# Altium footprint library SparkFun-Connectors.PCBLIB: 310 footprints (part 12 of 20)
Each footprint in its own frame and in the unit in brackets; x right, y up, seen from the top. Pads: shape width x height; smd on the part's side, far side on the other; paste and mask are expansions set on the pad; w line width, h text height; cw(c..) or ccw(c..) is an arc to the next point about the centre after c.
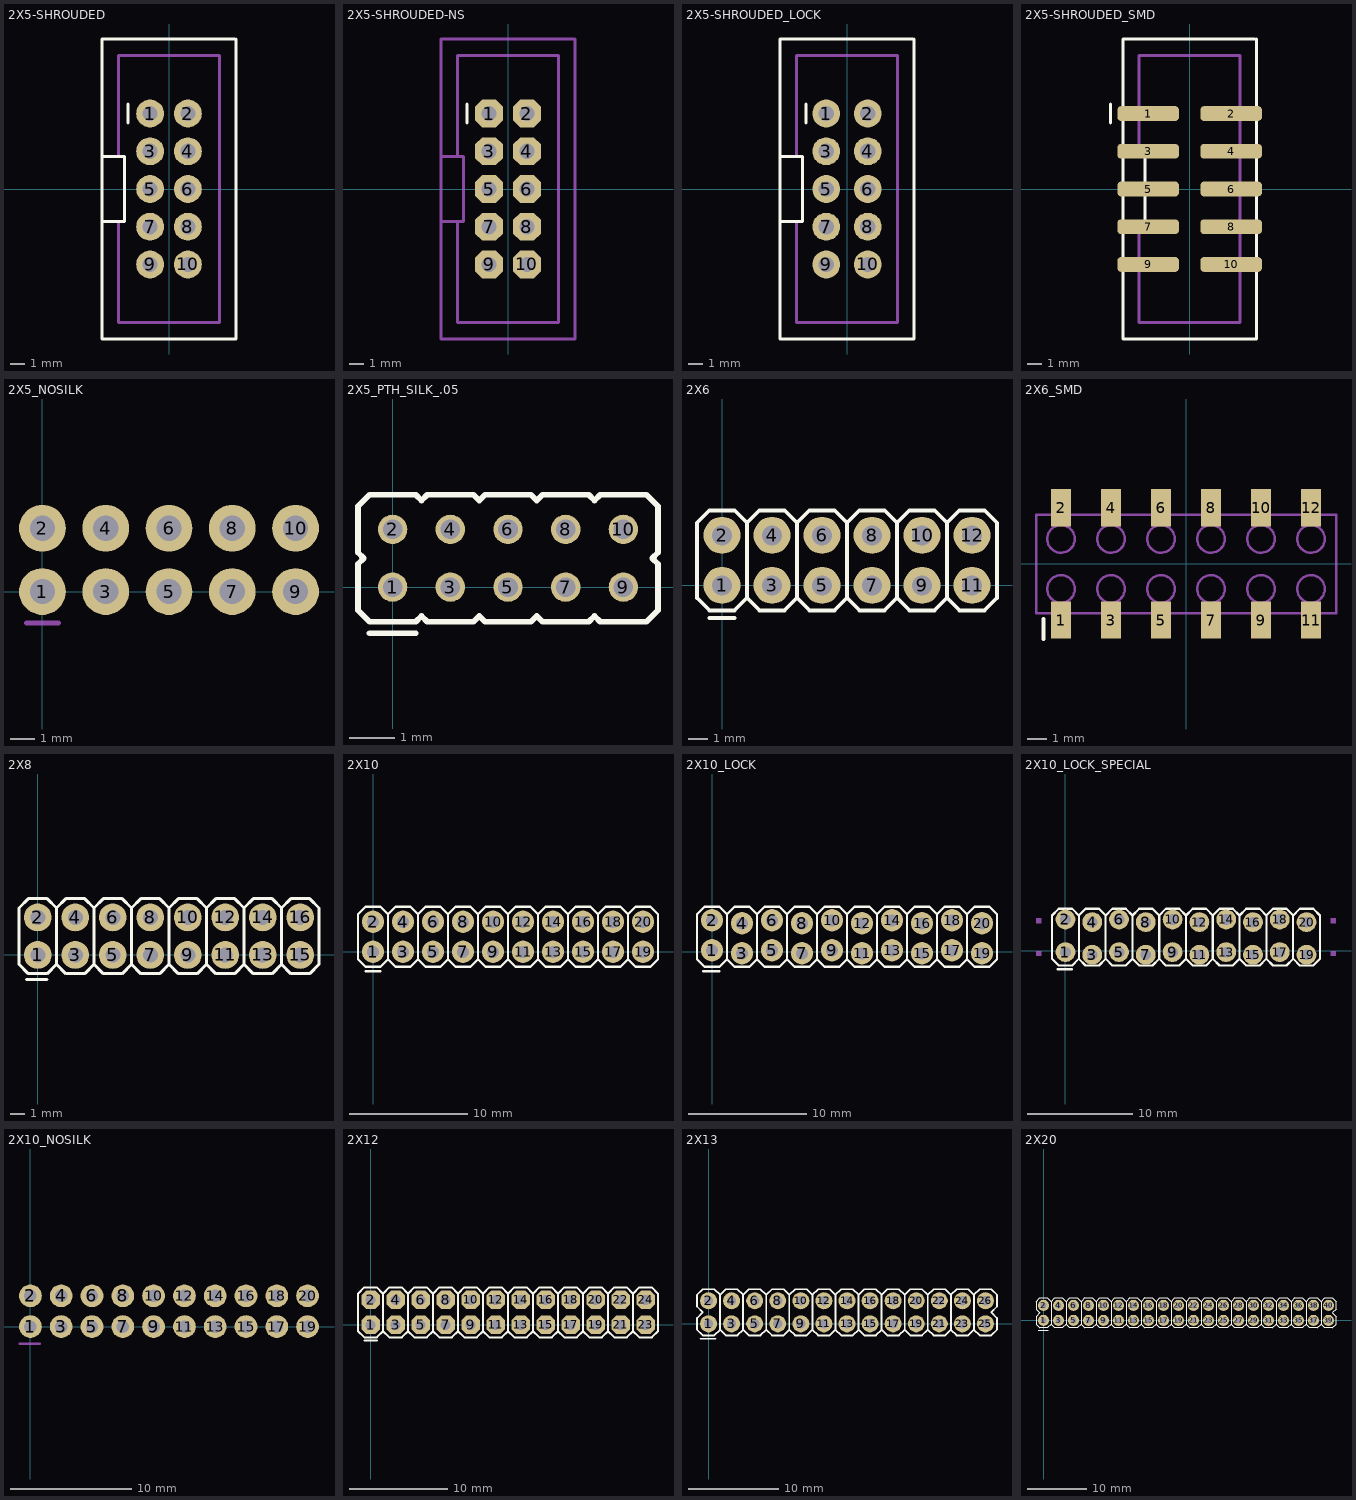
[diagram p11: the footprints below, top view; thin cyan lines are the x and y axes]

## 2X5-SHROUDED [mil]
pads (10):
  round 74 hole 40: 1(-50,200) 2(50,200) 3(-50,100) 4(50,100) 5(-50,0) 6(50,0) 7(-50,-100) 8(50,-100) 9(-50,-200) 10(50,-200)
Top Overlay:
  lines w8: -109.25,175 -109.25,225 ; 173.23,397.64 -177.17,397.64 -177.17,86.61 ; 177.17,397.64 177.17,-397.64 -177.17,-397.64 -177.17,-86.61 ; -177.17,-86.61 -177.17,86.61 ; -177.17,-86.61 -118.11,-86.61 -118.11,86.61 -177.17,86.61
Bottom Overlay:
  lines w8: -110.75,175 -110.75,225
Mechanical 16:
  rectangle: -60,190 -40,210
  rectangle: 40,190 60,210
  rectangle: 40,90 60,110
  rectangle: -60,90 -40,110
  rectangle: 40,-10 60,10
  rectangle: -60,-10 -40,10
  rectangle: 40,-110 60,-90
  rectangle: -60,-110 -40,-90
  rectangle: 40,-210 60,-190
  rectangle: -60,-210 -40,-190
  rectangle: -60,-110 -40,-90
  rectangle: 40,-110 60,-90
  lines w8: -133.86,-86.61 -133.86,-354.33 133.86,-354.33 133.86,354.33 -133.86,354.33 -133.86,86.61

## 2X5-SHROUDED-NS [mil]
pads (10):
  oct 74x74 hole 40: 1(-50,200) 2(50,200) 3(-50,100) 4(50,100) 5(-50,0) 6(50,0) 7(-50,-100) 8(50,-100) 9(-50,-200) 10(50,-200)
Top Overlay:
  lines w8: -109.25,175 -109.25,225
Bottom Overlay:
  lines w8: -110.75,175 -110.75,225
Mechanical 16:
  rectangle: -60,190 -40,210
  rectangle: 40,190 60,210
  rectangle: 40,90 60,110
  rectangle: -60,90 -40,110
  rectangle: 40,-10 60,10
  rectangle: -60,-10 -40,10
  rectangle: 40,-110 60,-90
  rectangle: -60,-110 -40,-90
  rectangle: 40,-210 60,-190
  rectangle: -60,-210 -40,-190
  rectangle: -60,-110 -40,-90
  rectangle: 40,-110 60,-90
  lines w8: -133.86,-86.61 -133.86,-354.33 133.86,-354.33 133.86,354.33 -133.86,354.33 -133.86,86.61 ; 173.23,397.64 -177.17,397.64 -177.17,86.61 ; 177.17,397.64 177.17,-397.64 -177.17,-397.64 -177.17,-86.61 ; -177.17,-86.61 -177.17,86.61 ; -177.17,-86.61 -118.11,-86.61 -118.11,86.61 -177.17,86.61

## 2X5-SHROUDED_LOCK [mil]
pads (10):
  round 74 hole 40: 1(-55,200) 2(55,200) 3(-55,100) 4(55,100) 5(-55,0) 6(55,0) 7(-55,-100) 8(55,-100) 9(-55,-200) 10(55,-200)
Top Overlay:
  lines w8: -109.25,175 -109.25,225 ; 173.23,397.64 -177.17,397.64 -177.17,86.61 ; 177.17,397.64 177.17,-397.64 -177.17,-397.64 -177.17,-86.61 ; -177.17,-86.61 -177.17,86.61 ; -177.17,-86.61 -118.11,-86.61 -118.11,86.61 -177.17,86.61
Bottom Overlay:
  lines w8: -110.75,175 -110.75,225
Mechanical 16:
  region: -60,210 -60,190 -40,190 -40,210
  region: 40,210 40,190 60,190 60,210
  region: 40,110 40,90 60,90 60,110
  region: -60,110 -60,90 -40,90 -40,110
  region: 40,10 40,-10 60,-10 60,10
  region: -60,10 -60,-10 -40,-10 -40,10
  region: 40,-90 40,-110 60,-110 60,-90
  region: -60,-90 -60,-110 -40,-110 -40,-90
  region: 40,-190 40,-210 60,-210 60,-190
  region: -60,-190 -60,-210 -40,-210 -40,-190
  region: -60,-90 -60,-110 -40,-110 -40,-90
  region: 40,-90 40,-110 60,-110 60,-90
  lines w8: -133.86,-86.61 -133.86,-354.33 133.86,-354.33 133.86,354.33 -133.86,354.33 -133.86,86.61

## 2X5-SHROUDED_SMD [mil]
pads (10):
  rrect50% 163.39x39.37 smd: 1(-110,200) 2(110,200) 3(-110,100) 4(110,100) 5(-110,0) 6(110,0) 7(-110,-100) 8(110,-100) 9(-110,-200) 10(110,-200)
Top Overlay:
  lines w8: -209.25,175 -209.25,225 ; 173.23,397.64 -177.17,397.64 -177.17,86.61 ; 177.17,397.64 177.17,-397.64 -177.17,-397.64 -177.17,-86.61 ; -177.17,-86.61 -177.17,86.61 ; -177.17,-86.61 -118.11,-86.61 -118.11,86.61 -177.17,86.61
Bottom Overlay:
  lines w8: -210.75,175 -210.75,225
Mechanical 16:
  rectangle: -60,190 -40,210
  rectangle: 40,190 60,210
  rectangle: 40,90 60,110
  rectangle: -60,90 -40,110
  rectangle: 40,-10 60,10
  rectangle: -60,-10 -40,10
  rectangle: 40,-110 60,-90
  rectangle: -60,-110 -40,-90
  rectangle: 40,-210 60,-190
  rectangle: -60,-210 -40,-190
  rectangle: -60,-110 -40,-90
  rectangle: 40,-110 60,-90
  lines w8: -133.86,-86.61 -133.86,-354.33 133.86,-354.33 133.86,354.33 -133.86,354.33 -133.86,86.61

## 2X5_NOSILK [mil]
pads (10):
  round 74 hole 40: 1(0,0) 2(0,100) 3(100,0) 4(100,100) 5(200,0) 6(200,100) 7(300,0) 8(300,100) 9(400,0) 10(400,100)
Mechanical 16:
  region: 10,-10 10,10 -10,10 -10,-10
  region: 10,90 10,110 -10,110 -10,90
  region: 110,90 110,110 90,110 90,90
  region: 110,-10 110,10 90,10 90,-10
  region: 210,-10 210,10 190,10 190,-10
  region: 410,90 410,110 390,110 390,90
  region: 410,-10 410,10 390,10 390,-10
  region: 310,-10 310,10 290,10 290,-10
  region: 310,90 310,110 290,110 290,90
  region: 210,90 210,110 190,110 190,90
  lines w8: -25,-50 25,-50

## 2X5_PTH_SILK_.05 [mil]
pads (10):
  round 25.5 hole 17: 1(0,0) 2(0,50) 3(50,0) 4(50,50) 5(100,0) 6(100,50) 7(150,0) 8(150,50) 9(200,0) 10(200,50)
Top Overlay:
  lines w5: -20,-40 20,-40 ; -30,-20 -20,-30 20,-30 25,-25 30,-30 70,-30 75,-25 80,-30 120,-30 125,-25 130,-30 170,-30 175,-25 180,-30 220,-30 230,-20 230,20 225,25 230,30 230,70 220,80 180,80 175,75 170,80 130,80 125,75 120,80 80,80 75,75 70,80 30,80 25,75 20,80 -20,80 -30,70 -30,30 -25,25 -30,20 -30,-20
Bottom Overlay:
  lines w5: -20,-40 20,-40

## 2X6 [mil]
pads (12):
  round 74 hole 40: 1(0,0) 2(0,100) 3(100,0) 4(100,100) 5(200,0) 6(200,100) 7(300,0) 8(300,100) 9(400,0) 10(400,100) 11(500,0) 12(500,100)
Top Overlay:
  lines w8: -25,-65 25,-65 ; -50,-25 -25,-50 ; -50,-25 -50,125 ; -50,-25 -25,-50 ; -50,-25 -50,125 ; -50,-25 -25,-50 ; -50,-25 -50,125 ; -50,125 -25,150 ; -50,125 -25,150 ; -50,125 -25,150 ; -25,-50 25,-50 50,-25 ; -25,150 25,150 50,125 ; 50,-25 75,-50 125,-50 150,-25 ; 50,-25 50,125 ; 50,125 75,150 125,150 150,125 ; 150,-25 175,-50 225,-50 250,-25 ; 150,-25 150,125 ; 150,125 175,150 225,150 250,125 ; 250,-25 275,-50 325,-50 350,-25 ; 250,-25 250,125 ; 250,125 275,150 325,150 350,125 ; 350,-25 375,-50 425,-50 450,-25 ; 350,-25 350,125 ; 350,125 375,150 425,150 450,125 ; 450,-25 475,-50 525,-50 550,-25 550,125 525,150 475,150 450,125 ; 450,-25 450,125
Bottom Overlay:
  lines w8: -25,-65 25,-65
Mechanical 16:
  rectangle: -10,-10 10,10
  rectangle: -10,90 10,110
  rectangle: 90,90 110,110
  rectangle: 90,-10 110,10
  rectangle: 190,90 210,110
  rectangle: 190,-10 210,10
  rectangle: 290,90 310,110
  rectangle: 390,90 410,110
  rectangle: 490,90 510,110
  rectangle: 290,-10 310,10
  rectangle: 390,-10 410,10
  rectangle: 490,-10 510,10

## 2X6_SMD [mil]
pads (12):
  rect 40.16x74.8 smd: 1(-250,-112.2) 2(-250,112.2) 3(-150,-112.2) 4(-150,112.2) 5(-50,-112.2) 6(-50,112.2) 7(50,-112.2) 8(50,112.2) 9(150,-112.2) 10(150,112.2) 11(250,-112.2) 12(250,112.2)
Top Overlay:
  lines w8: -285,-150 -285,-110
Mechanical 16:
  circle w5: c-150,50 r27.56
  circle w5: c-250,50 r27.56
  circle w5: c-250,-50 r27.56
  circle w5: c-150,-50 r27.56
  circle w5: c-50,-50 r27.56
  circle w5: c-50,50 r27.56
  circle w5: c50,-50 r27.56
  circle w5: c50,50 r27.56
  circle w5: c150,-50 r27.56
  circle w5: c150,50 r27.56
  circle w5: c250,-50 r27.56
  circle w5: c250,50 r27.56
  rectangle: -161.81,100.39 -138.19,131.89
  rectangle: -261.81,100.39 -238.19,131.89
  rectangle: -61.81,100.39 -38.19,131.89
  region: -238.19,-100.39 -261.81,-100.39 -261.81,-131.89 -238.19,-131.89
  region: -138.19,-100.39 -161.81,-100.39 -161.81,-131.89 -138.19,-131.89
  region: -38.19,-100.39 -61.81,-100.39 -61.81,-131.89 -38.19,-131.89
  rectangle: 38.19,100.39 61.81,131.89
  region: 61.81,-100.39 38.19,-100.39 38.19,-131.89 61.81,-131.89
  rectangle: 138.19,100.39 161.81,131.89
  region: 161.81,-100.39 138.19,-100.39 138.19,-131.89 161.81,-131.89
  rectangle: 238.19,100.39 261.81,131.89
  region: 261.81,-100.39 238.19,-100.39 238.19,-131.89 261.81,-131.89
  lines w5: -300,-98.43 -300,98.43 300,98.43 300,-98.43 -300,-98.43

## 2X8 [mil]
pads (16):
  round 74 hole 40: 1(0,0) 2(0,100) 3(100,0) 4(100,100) 5(200,0) 6(200,100) 7(300,0) 8(300,100) 9(400,0) 10(400,100) 11(500,0) 12(500,100) 13(600,0) 14(600,100) 15(700,0) 16(700,100)
Top Overlay:
  lines w8: -30,-65 25,-65 ; 50,-25 25,-50 -25,-50 -50,-25 -50,125 -25,150 25,150 50,125 ; 50,-25 75,-50 125,-50 150,-25 ; 50,-25 50,125 ; 50,125 75,150 125,150 150,125 ; 150,-25 175,-50 225,-50 250,-25 ; 150,-25 150,125 ; 150,125 175,150 225,150 250,125 ; 250,-25 275,-50 325,-50 350,-25 ; 250,-25 250,125 ; 250,125 275,150 325,150 350,125 ; 350,-25 375,-50 425,-50 450,-25 ; 350,-25 350,125 ; 350,125 375,150 425,150 450,125 ; 450,-25 475,-50 525,-50 550,-25 ; 450,-25 450,125 ; 450,125 475,150 525,150 550,125 ; 550,-25 575,-50 625,-50 650,-25 ; 550,-25 550,125 ; 550,125 575,150 625,150 650,125 ; 650,-25 675,-50 725,-50 750,-25 750,125 725,150 675,150 650,125 ; 650,-25 650,125
Bottom Overlay:
  lines w8: -30,-65 25,-65
Mechanical 16:
  rectangle: -10,-10 10,10
  rectangle: -10,90 10,110
  rectangle: 90,90 110,110
  rectangle: 90,-10 110,10
  rectangle: 190,90 210,110
  rectangle: 190,-10 210,10
  rectangle: 290,90 310,110
  rectangle: 390,90 410,110
  rectangle: 490,90 510,110
  rectangle: 290,-10 310,10
  rectangle: 390,-10 410,10
  rectangle: 490,-10 510,10
  rectangle: 590,90 610,110
  rectangle: 590,-10 610,10
  rectangle: 690,90 710,110
  rectangle: 690,-10 710,10

## 2X10 [mil]
pads (20):
  round 74 hole 40: 1(0,0) 2(0,100) 3(100,0) 4(100,100) 5(200,0) 6(200,100) 7(300,0) 8(300,100) 9(400,0) 10(400,100) 11(500,0) 12(500,100) 13(600,0) 14(600,100) 15(700,0) 16(700,100) 17(800,0) 18(800,100) 19(900,0) 20(900,100)
Top Overlay:
  lines w8: -25,-65 25,-65 ; 50,-25 25,-50 -25,-50 -50,-25 -50,125 -25,150 25,150 50,125 ; 50,-25 75,-50 125,-50 150,-25 ; 50,-25 50,125 ; 50,125 75,150 125,150 150,125 ; 150,-25 175,-50 225,-50 250,-25 ; 150,-25 150,125 ; 150,125 175,150 225,150 250,125 ; 250,-25 275,-50 325,-50 350,-25 ; 250,-25 250,125 ; 250,125 275,150 325,150 350,125 ; 350,-25 375,-50 425,-50 450,-25 ; 350,-25 350,125 ; 350,125 375,150 425,150 450,125 ; 450,-25 475,-50 525,-50 550,-25 ; 450,-25 450,125 ; 450,125 475,150 525,150 550,125 ; 550,-25 575,-50 625,-50 650,-25 ; 550,-25 550,125 ; 550,125 575,150 625,150 650,125 ; 650,-25 675,-50 725,-50 750,-25 ; 650,-25 650,125 ; 650,125 675,150 725,150 750,125 ; 750,-25 775,-50 825,-50 850,-25 ; 750,-25 750,125 ; 750,125 775,150 825,150 850,125 ; 850,-25 850,125 ; 850,-25 875,-50 925,-50 950,-25 950,125 925,150 875,150 850,125
Bottom Overlay:
  lines w8: -25,-65 25,-65
Mechanical 16:
  rectangle: -10,-10 10,10
  rectangle: -10,90 10,110
  rectangle: 90,90 110,110
  rectangle: 90,-10 110,10
  rectangle: 190,90 210,110
  rectangle: 190,-10 210,10
  rectangle: 290,90 310,110
  rectangle: 390,90 410,110
  rectangle: 490,90 510,110
  rectangle: 290,-10 310,10
  rectangle: 390,-10 410,10
  rectangle: 490,-10 510,10
  rectangle: 590,90 610,110
  rectangle: 590,-10 610,10
  rectangle: 690,90 710,110
  rectangle: 690,-10 710,10
  rectangle: 790,90 810,110
  rectangle: 790,-10 810,10
  rectangle: 890,90 910,110
  rectangle: 890,-10 910,10

## 2X10_LOCK [mil]
pads (20):
  round 74 hole 40: 1(0,5) 2(0,105) 3(100,-5) 4(100,95) 5(200,5) 6(200,105) 7(300,-5) 8(300,95) 9(400,5) 10(400,105) 11(500,-5) 12(500,95) 13(600,5) 14(600,105) 15(700,-5) 16(700,95) 17(800,5) 18(800,105) 19(900,-5) 20(900,95)
Top Overlay:
  lines w8: -30,-65 25,-65 ; 50,-25 25,-50 -25,-50 -50,-25 -50,125 -25,150 25,150 50,125 ; 50,-25 75,-50 125,-50 150,-25 ; 50,-25 50,125 ; 50,125 75,150 125,150 150,125 ; 150,-25 175,-50 225,-50 250,-25 ; 150,-25 150,125 ; 150,125 175,150 225,150 250,125 ; 250,-25 275,-50 325,-50 350,-25 ; 250,-25 250,125 ; 250,125 275,150 325,150 350,125 ; 350,-25 375,-50 425,-50 450,-25 ; 350,-25 350,125 ; 350,125 375,150 425,150 450,125 ; 450,-25 475,-50 525,-50 550,-25 ; 450,-25 450,125 ; 450,125 475,150 525,150 550,125 ; 550,-25 575,-50 625,-50 650,-25 ; 550,-25 550,125 ; 550,125 575,150 625,150 650,125 ; 650,-25 675,-50 725,-50 750,-25 ; 650,-25 650,125 ; 650,125 675,150 725,150 750,125 ; 750,-25 775,-50 825,-50 850,-25 ; 750,-25 750,125 ; 750,125 775,150 825,150 850,125 ; 850,-25 850,125 ; 850,-25 875,-50 925,-50 950,-25 950,125 925,150 875,150 850,125
Bottom Overlay:
  lines w8: -30,-65 25,-65
Mechanical 16:
  rectangle: -10,-10 10,10
  rectangle: -10,90 10,110
  rectangle: 90,90 110,110
  rectangle: 90,-10 110,10
  rectangle: 190,90 210,110
  rectangle: 190,-10 210,10
  rectangle: 290,90 310,110
  rectangle: 390,90 410,110
  rectangle: 490,90 510,110
  rectangle: 290,-10 310,10
  rectangle: 390,-10 410,10
  rectangle: 490,-10 510,10
  rectangle: 590,90 610,110
  rectangle: 590,-10 610,10
  rectangle: 690,90 710,110
  rectangle: 690,-10 710,10
  rectangle: 790,90 810,110
  rectangle: 790,-10 810,10
  rectangle: 890,90 910,110
  rectangle: 890,-10 910,10

## 2X10_LOCK_SPECIAL [mil]
pads (20):
  round 74 hole 40: 1(0,-6) 2(0,116) 3(100,-16) 4(100,106) 5(200,-6) 6(200,116) 7(300,-16) 8(300,106) 9(400,-6) 10(400,116) 11(500,-16) 12(500,106) 13(600,-6) 14(600,116) 15(700,-16) 16(700,106) 17(800,-6) 18(800,116) 19(900,-16) 20(900,106)
Top Overlay:
  lines w8: -30,-70 25,-70 ; 50,-31 25,-56 -25,-56 -50,-31 -50,131 -25,156 25,156 50,131 ; 50,-31 75,-56 125,-56 150,-31 ; 50,-31 50,131 ; 50,131 75,156 125,156 150,131 ; 150,-31 175,-56 225,-56 250,-31 ; 150,-31 150,131 ; 150,131 175,156 225,156 250,131 ; 250,-31 275,-56 325,-56 350,-31 ; 250,-31 250,131 ; 250,131 275,156 325,156 350,131 ; 350,-31 375,-56 425,-56 450,-31 ; 350,-31 350,131 ; 350,131 375,156 425,156 450,131 ; 450,-31 475,-56 525,-56 550,-31 ; 450,-31 450,131 ; 450,131 475,156 525,156 550,131 ; 550,-31 575,-56 625,-56 650,-31 ; 550,-31 550,131 ; 550,131 575,156 625,156 650,131 ; 650,-31 675,-56 725,-56 750,-31 ; 650,-31 650,131 ; 650,131 675,156 725,156 750,131 ; 750,-31 775,-56 825,-56 850,-31 ; 750,-31 750,131 ; 750,131 775,156 825,156 850,131 ; 850,-31 850,131 ; 850,-31 875,-56 925,-56 950,-31 950,131 925,156 875,156 850,131
Bottom Overlay:
  lines w8: -30,-70 25,-70
Mechanical 16:
  rectangle: -10,-21 10,-1
  rectangle: -10,101 10,121
  rectangle: 90,101 110,121
  rectangle: 90,-21 110,-1
  rectangle: 190,101 210,121
  rectangle: 190,-21 210,-1
  rectangle: 290,101 310,121
  rectangle: 390,101 410,121
  rectangle: 490,101 510,121
  rectangle: 290,-21 310,-1
  rectangle: 390,-21 410,-1
  rectangle: 490,-21 510,-1
  rectangle: 590,101 610,121
  rectangle: 590,-21 610,-1
  rectangle: 690,101 710,121
  rectangle: 690,-21 710,-1
  rectangle: 790,101 810,121
  rectangle: 790,-21 810,-1
  rectangle: 890,101 910,121
  rectangle: 890,-21 910,-1
  rectangle: -110,101 -90,121
  rectangle: -110,-21 -90,-1
  rectangle: 990,101 1010,121
  rectangle: 990,-21 1010,-1

## 2X10_NOSILK [mil]
pads (20):
  round 74 hole 40: 1(0,0) 2(0,100) 3(100,0) 4(100,100) 5(200,0) 6(200,100) 7(300,0) 8(300,100) 9(400,0) 10(400,100) 11(500,0) 12(500,100) 13(600,0) 14(600,100) 15(700,0) 16(700,100) 17(800,0) 18(800,100) 19(900,0) 20(900,100)
Mechanical 16:
  rectangle: -10,-10 10,10
  rectangle: -10,90 10,110
  rectangle: 90,90 110,110
  rectangle: 90,-10 110,10
  rectangle: 190,90 210,110
  rectangle: 190,-10 210,10
  rectangle: 290,90 310,110
  rectangle: 390,90 410,110
  rectangle: 490,90 510,110
  rectangle: 290,-10 310,10
  rectangle: 390,-10 410,10
  rectangle: 490,-10 510,10
  rectangle: 590,90 610,110
  rectangle: 590,-10 610,10
  rectangle: 690,90 710,110
  rectangle: 690,-10 710,10
  rectangle: 790,90 810,110
  rectangle: 790,-10 810,10
  rectangle: 890,90 910,110
  rectangle: 890,-10 910,10
  lines w8: -35,-55 30,-55
Mechanical 30:
  lines w8: -35,-55 30,-55

## 2X12 [mil]
pads (24):
  oct 74x74 hole 40: 1(0,0) 2(0,100) 3(100,0) 4(100,100) 5(200,0) 6(200,100) 7(300,0) 8(300,100) 9(400,0) 10(400,100) 11(500,0) 12(500,100) 13(600,0) 14(600,100) 15(700,0) 16(700,100) 17(800,0) 18(800,100) 19(900,0) 20(900,100) 21(1000,0) 22(1000,100) 23(1100,0) 24(1100,100)
Top Overlay:
  lines w8: -25,-63.19 25,-63.19 ; 50,-25 25,-50 -25,-50 -50,-25 -50,125 -25,150 25,150 50,125 ; 50,-25 75,-50 125,-50 150,-25 ; 50,-25 50,125 ; 50,125 75,150 125,150 150,125 ; 150,-25 175,-50 225,-50 250,-25 ; 150,-25 150,125 ; 150,125 175,150 225,150 250,125 ; 250,-25 275,-50 325,-50 350,-25 ; 250,-25 250,125 ; 250,125 275,150 325,150 350,125 ; 350,-25 375,-50 425,-50 450,-25 ; 350,-25 350,125 ; 350,125 375,150 425,150 450,125 ; 450,-25 475,-50 525,-50 550,-25 ; 450,-25 450,125 ; 450,125 475,150 525,150 550,125 ; 550,-25 575,-50 625,-50 650,-25 ; 550,-25 550,125 ; 550,125 575,150 625,150 650,125 ; 650,-25 675,-50 725,-50 750,-25 ; 650,-25 650,125 ; 650,125 675,150 725,150 750,125 ; 750,-25 775,-50 825,-50 850,-25 ; 750,-25 750,125 ; 750,125 775,150 825,150 850,125 ; 850,-25 875,-50 925,-50 950,-25 ; 850,-25 850,125 ; 850,125 875,150 925,150 950,125 ; 950,-25 975,-50 1025,-50 1050,-25 ; 950,-25 950,125 ; 950,125 975,150 1025,150 1050,125 ; 1050,-25 1075,-50 1125,-50 1150,-25 1150,125 1125,150 1075,150 1050,125 ; 1050,-25 1050,125
Mechanical 16:
  rectangle: -10,-10 10,10
  rectangle: -10,90 10,110
  rectangle: 90,90 110,110
  rectangle: 90,-10 110,10
  rectangle: 190,90 210,110
  rectangle: 190,-10 210,10
  rectangle: 290,-10 310,10
  rectangle: 290,90 310,110
  rectangle: 390,90 410,110
  rectangle: 390,-10 410,10
  rectangle: 490,90 510,110
  rectangle: 490,-10 510,10
  rectangle: 590,-10 610,10
  rectangle: 590,90 610,110
  rectangle: 690,90 710,110
  rectangle: 690,-10 710,10
  rectangle: 790,90 810,110
  rectangle: 790,-10 810,10
  rectangle: 890,-10 910,10
  rectangle: 890,90 910,110
  rectangle: 990,90 1010,110
  rectangle: 990,-10 1010,10
  rectangle: 1090,90 1110,110
  rectangle: 1090,-10 1110,10

## 2X13 [mil]
pads (26):
  round 74 hole 40: 1(0,0) 2(0,100) 3(100,0) 4(100,100) 5(200,0) 6(200,100) 7(300,0) 8(300,100) 9(400,0) 10(400,100) 11(500,0) 12(500,100) 13(600,0) 14(600,100) 15(700,0) 16(700,100) 17(800,0) 18(800,100) 19(900,0) 20(900,100) 21(1000,0) 22(1000,100) 23(1100,0) 24(1100,100) 25(1200,0) 26(1200,100)
Top Overlay:
  lines w8: -35,-65 30,-65 ; 50,-25 25,-50 -25,-50 -50,-25 -50,25 -25,50 -50,75 -50,125 -25,150 25,150 50,125 ; 50,-25 75,-50 125,-50 150,-25 ; 50,-25 50,125 ; 50,125 75,150 125,150 150,125 ; 150,-25 175,-50 225,-50 250,-25 ; 150,-25 150,125 ; 150,125 175,150 225,150 250,125 ; 250,-25 275,-50 325,-50 350,-25 ; 250,-25 250,125 ; 250,125 275,150 325,150 350,125 ; 350,-25 375,-50 425,-50 450,-25 ; 350,-25 350,125 ; 350,125 375,150 425,150 450,125 ; 450,-25 475,-50 525,-50 550,-25 ; 450,-25 450,125 ; 450,125 475,150 525,150 550,125 ; 550,-25 575,-50 625,-50 650,-25 ; 550,-25 550,125 ; 550,125 575,150 625,150 650,125 ; 650,-25 675,-50 725,-50 750,-25 ; 650,-25 650,125 ; 650,125 675,150 725,150 750,125 ; 750,-25 775,-50 825,-50 850,-25 ; 750,-25 750,125 ; 750,125 775,150 825,150 850,125 ; 850,-25 875,-50 925,-50 950,-25 ; 850,-25 850,125 ; 850,125 875,150 925,150 950,125 ; 950,-25 975,-50 1025,-50 1050,-25 ; 950,-25 950,125 ; 950,125 975,150 1025,150 1050,125 ; 1050,-25 1075,-50 1125,-50 1150,-25 ; 1050,-25 1050,125 ; 1050,125 1075,150 1125,150 1150,125 ; 1150,-25 1175,-50 1225,-50 1250,-25 1250,25 1225,50 1250,75 1250,125 1225,150 1175,150 1150,125 ; 1150,-25 1150,125
Bottom Overlay:
  lines w8: -35,-65 30,-65
Mechanical 16:
  rectangle: 590,-10 610,10
  rectangle: 490,-10 510,10
  rectangle: 390,-10 410,10
  rectangle: 290,-10 310,10
  rectangle: 190,-10 210,10
  rectangle: 90,-10 110,10
  rectangle: -10,-10 10,10
  rectangle: 1190,-10 1210,10
  rectangle: 1090,-10 1110,10
  rectangle: 990,-10 1010,10
  rectangle: 890,-10 910,10
  rectangle: 790,-10 810,10
  rectangle: 690,-10 710,10
  region: 610,110 590,110 590,90 610,90
  region: 710,110 690,110 690,90 710,90
  region: 810,110 790,110 790,90 810,90
  region: 910,110 890,110 890,90 910,90
  region: 1010,110 990,110 990,90 1010,90
  region: 1110,110 1090,110 1090,90 1110,90
  region: 1210,110 1190,110 1190,90 1210,90
  region: 10,110 -10,110 -10,90 10,90
  region: 110,110 90,110 90,90 110,90
  region: 210,110 190,110 190,90 210,90
  region: 310,110 290,110 290,90 310,90
  region: 410,110 390,110 390,90 410,90
  region: 510,110 490,110 490,90 510,90

## 2X20 [mil]
pads (40):
  round 74 hole 40: 1(0,0) 2(0,100) 3(100,0) 4(100,100) 5(200,0) 6(200,100) 7(300,0) 8(300,100) 9(400,0) 10(400,100) 11(500,0) 12(500,100) 13(600,0) 14(600,100) 15(700,0) 16(700,100) 17(800,0) 18(800,100) 19(900,0) 20(900,100) 21(1000,0) 22(1000,100) 23(1100,0) 24(1100,100) 25(1200,0) 26(1200,100) 27(1300,0) 28(1300,100) 29(1400,0) 30(1400,100) 31(1500,0) 32(1500,100) 33(1600,0) 34(1600,100) 35(1700,0) 36(1700,100) 37(1800,0) 38(1800,100) 39(1900,0) 40(1900,100)
Top Overlay:
  lines w8: -35,-65 30,-65 ; 50,-25 25,-50 -25,-50 -50,-25 -50,25 -25,50 -50,75 -50,125 -25,150 25,150 50,125 ; 50,-25 75,-50 125,-50 150,-25 ; 50,-25 50,125 ; 50,125 75,150 125,150 150,125 ; 150,-25 175,-50 225,-50 250,-25 ; 150,-25 150,125 ; 150,125 175,150 225,150 250,125 ; 250,-25 275,-50 325,-50 350,-25 ; 250,-25 250,125 ; 250,125 275,150 325,150 350,125 ; 350,-25 375,-50 425,-50 450,-25 ; 350,-25 350,125 ; 350,125 375,150 425,150 450,125 ; 450,-25 475,-50 525,-50 550,-25 ; 450,-25 450,125 ; 450,125 475,150 525,150 550,125 ; 550,-25 575,-50 625,-50 650,-25 ; 550,-25 550,125 ; 550,125 575,150 625,150 650,125 ; 650,-25 675,-50 725,-50 750,-25 ; 650,-25 650,125 ; 650,125 675,150 725,150 750,125 ; 750,-25 775,-50 825,-50 850,-25 ; 750,-25 750,125 ; 750,125 775,150 825,150 850,125 ; 850,-25 875,-50 925,-50 950,-25 ; 850,-25 850,125 ; 850,125 875,150 925,150 950,125 ; 950,-25 975,-50 1025,-50 1050,-25 ; 950,-25 950,125 ; 950,125 975,150 1025,150 1050,125 ; 1050,-25 1075,-50 1125,-50 1150,-25 ; 1050,-25 1050,125 ; 1050,125 1075,150 1125,150 1150,125 ; 1150,-25 1175,-50 1225,-50 1250,-25 ; 1150,-25 1150,125 ; 1150,125 1175,150 1225,150 1250,125 ; 1250,-25 1250,125 ; 1250,-25 1275,-50 1325,-50 1350,-25 ; 1250,125 1275,150 1325,150 1350,125 ; 1350,-25 1350,125 ; 1350,-25 1375,-50 1425,-50 1450,-25 ; 1350,125 1375,150 1425,150 1450,125 ; 1450,-25 1450,125 ; 1450,-25 1475,-50 1525,-50 1550,-25 ; 1450,125 1475,150 1525,150 1550,125 ; 1550,-25 1550,125 ; 1550,-25 1575,-50 1625,-50 1650,-25 ; 1550,125 1575,150 1625,150 1650,125 ; 1650,-25 1650,125 ; 1650,-25 1675,-50 1725,-50 1750,-25 ; 1650,125 1675,150 1725,150 1750,125 ; 1750,-25 1750,125 ; 1750,-25 1775,-50 1825,-50 1850,-25 ; 1750,125 1775,150 1825,150 1850,125 ; 1850,-25 1850,125 ; 1850,-25 1875,-50 1925,-50 1950,-25 1950,25 1925,50 1950,75 1950,125 1925,150 1875,150 1850,125
Bottom Overlay:
  lines w8: -35,-65 30,-65
Mechanical 16:
  rectangle: 590,-10 610,10
  rectangle: 490,-10 510,10
  rectangle: 390,-10 410,10
  rectangle: 290,-10 310,10
  rectangle: 190,-10 210,10
  rectangle: 90,-10 110,10
  rectangle: -10,-10 10,10
  rectangle: 1190,-10 1210,10
  rectangle: 1090,-10 1110,10
  rectangle: 990,-10 1010,10
  rectangle: 890,-10 910,10
  rectangle: 790,-10 810,10
  rectangle: 690,-10 710,10
  region: 610,110 590,110 590,90 610,90
  region: 710,110 690,110 690,90 710,90
  region: 810,110 790,110 790,90 810,90
  region: 910,110 890,110 890,90 910,90
  region: 1010,110 990,110 990,90 1010,90
  region: 1110,110 1090,110 1090,90 1110,90
  region: 1210,110 1190,110 1190,90 1210,90
  region: 10,110 -10,110 -10,90 10,90
  region: 110,110 90,110 90,90 110,90
  region: 210,110 190,110 190,90 210,90
  region: 310,110 290,110 290,90 310,90
  region: 410,110 390,110 390,90 410,90
  region: 510,110 490,110 490,90 510,90
  region: 1310,110 1290,110 1290,90 1310,90
  region: 1410,110 1390,110 1390,90 1410,90
  region: 1510,110 1490,110 1490,90 1510,90
  region: 1610,110 1590,110 1590,90 1610,90
  region: 1710,110 1690,110 1690,90 1710,90
  region: 1810,110 1790,110 1790,90 1810,90
  region: 1910,110 1890,110 1890,90 1910,90
  region: 1310,10 1290,10 1290,-10 1310,-10
  region: 1410,10 1390,10 1390,-10 1410,-10
  region: 1510,10 1490,10 1490,-10 1510,-10
  region: 1610,10 1590,10 1590,-10 1610,-10
  region: 1710,10 1690,10 1690,-10 1710,-10
  region: 1810,10 1790,10 1790,-10 1810,-10
  region: 1910,10 1890,10 1890,-10 1910,-10